# Altium footprint library Connectors.PcbLib: 202 footprints (part 13 of 13)
Each footprint in its own frame and in the unit in brackets; x right, y up, seen from the top. Pads: shape width x height; smd on the part's side, far side on the other; paste and mask are expansions set on the pad; w line width, h text height; cw(c..) or ccw(c..) is an arc to the next point about the centre after c.
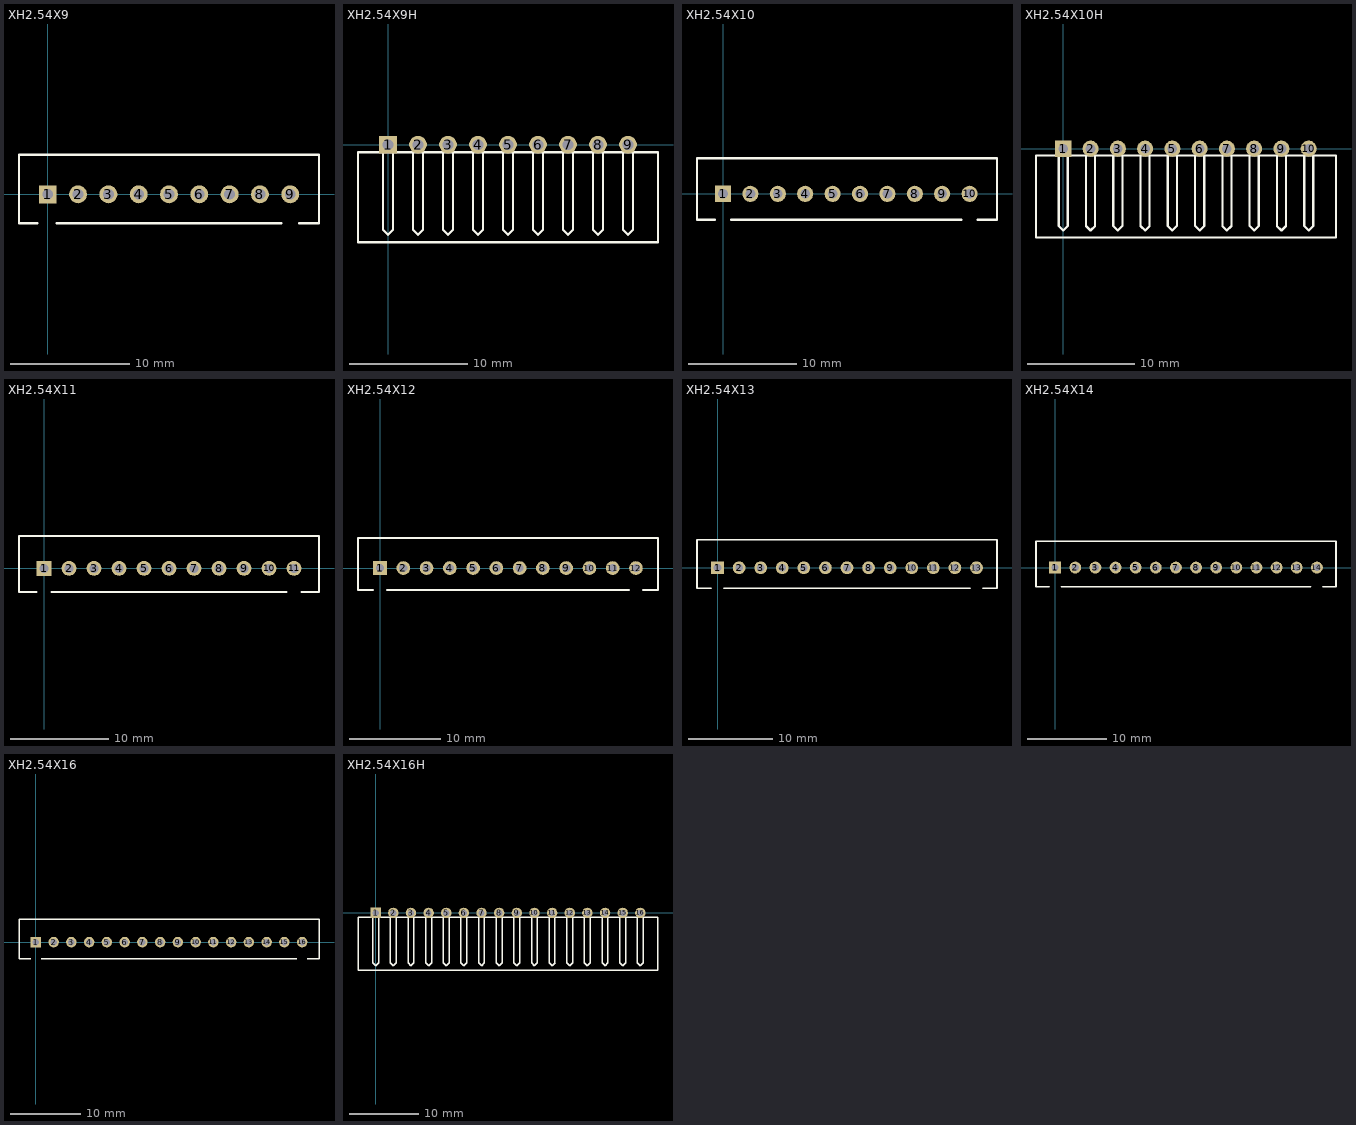
[diagram p12: the footprints below, top view; thin cyan lines are the x and y axes]

## XH2.54X9 [mm] "Connector; Header; 9 Position"
pads (9):
  rect 1.5x1.5 hole 0.9: 1(0,0)
  round 1.5 hole 0.9: 2(2.54,0) 3(5.08,0) 4(7.62,0) 5(10.16,0) 6(12.7,0) 7(15.24,0) 8(17.78,0) 9(20.32,0)
Top Overlay:
  lines w0.2: -0.889,-2.413 -2.413,-2.413 -2.413,3.302 22.733,3.302 22.733,-2.413 21.082,-2.413 ; 0.762,-2.413 19.558,-2.413

## XH2.54X9H [mm] "Connector; Header; 9 Position; Right Angle"
pads (9):
  rect 1.5x1.5 hole 0.9: 1(0,0)
  round 1.5 hole 0.9: 2(2.54,0) 3(5.08,0) 4(7.62,0) 5(10.16,0) 6(12.7,0) 7(15.24,0) 8(17.78,0) 9(20.32,0)
Top Overlay:
  lines w0.2: -0.423,-0.635 -0.423,-7.197 0,-7.62 0.423,-7.197 0.423,-0.635 ; 2.117,-0.635 2.117,-7.197 2.54,-7.62 2.963,-7.197 2.963,-0.635 ; 4.657,-0.635 4.657,-7.197 5.08,-7.62 5.503,-7.197 5.503,-0.635 ; 7.197,-0.635 7.197,-7.197 7.62,-7.62 8.043,-7.197 8.043,-0.635 ; 9.737,-0.635 9.737,-7.197 10.16,-7.62 10.583,-7.197 10.583,-0.635 ; 12.277,-0.635 12.277,-7.197 12.7,-7.62 13.123,-7.197 13.123,-0.635 ; 14.817,-0.635 14.817,-7.197 15.24,-7.62 15.663,-7.197 15.663,-0.635 ; 17.357,-0.635 17.357,-7.197 17.78,-7.62 18.203,-7.197 18.203,-0.635 ; 19.897,-0.635 19.897,-7.197 20.32,-7.62 20.743,-7.197 20.743,-0.635 ; -2.54,-8.255 -2.54,-0.635 22.86,-0.635 22.86,-8.255 -2.54,-8.255

## XH2.54X10 [mm] "Connector; Header; 10 Position"
pads (10):
  rect 1.5x1.5 hole 0.9: 1(0,0)
  round 1.5 hole 0.9: 2(2.54,0) 3(5.08,0) 4(7.62,0) 5(10.16,0) 6(12.7,0) 7(15.24,0) 8(17.78,0) 9(20.32,0) 10(22.86,0)
Top Overlay:
  lines w0.2: -0.762,-2.413 -2.413,-2.413 -2.413,3.302 25.4,3.302 25.4,-2.413 23.622,-2.413 ; 0.762,-2.413 22.098,-2.413

## XH2.54X10H [mm] "Connector; Header; 10 Position; Right Angle"
pads (10):
  rect 1.5x1.5 hole 0.9: 1(0,0)
  round 1.5 hole 0.9: 2(2.54,0) 3(5.08,0) 4(7.62,0) 5(10.16,0) 6(12.7,0) 7(15.24,0) 8(17.78,0) 9(20.32,0) 10(22.86,0)
Top Overlay:
  lines w0.2: -0.423,-0.635 -0.423,-7.197 0,-7.62 0.423,-7.197 0.423,-0.635 ; 2.117,-0.635 2.117,-7.197 2.54,-7.62 2.963,-7.197 2.963,-0.635 ; 4.657,-0.635 4.657,-7.197 5.08,-7.62 5.503,-7.197 5.503,-0.635 ; 7.197,-0.635 7.197,-7.197 7.62,-7.62 8.043,-7.197 8.043,-0.635 ; 9.737,-0.635 9.737,-7.197 10.16,-7.62 10.583,-7.197 10.583,-0.635 ; 12.277,-0.635 12.277,-7.197 12.7,-7.62 13.123,-7.197 13.123,-0.635 ; 14.817,-0.635 14.817,-7.197 15.24,-7.62 15.663,-7.197 15.663,-0.635 ; 17.357,-0.635 17.357,-7.197 17.78,-7.62 18.203,-7.197 18.203,-0.635 ; 19.897,-0.635 19.897,-7.197 20.32,-7.62 20.743,-7.197 20.743,-0.635 ; 22.437,-0.635 22.437,-7.197 22.86,-7.62 23.283,-7.197 23.283,-0.635 ; -2.54,-8.255 25.4,-8.255 25.4,-0.635 -2.54,-0.635 -2.54,-8.255

## XH2.54X11 [mm] "Connector; Header; 11 Position"
pads (11):
  rect 1.5x1.5 hole 0.9: 1(0,0)
  round 1.5 hole 0.9: 2(2.54,0) 3(5.08,0) 4(7.62,0) 5(10.16,0) 6(12.7,0) 7(15.24,0) 8(17.78,0) 9(20.32,0) 10(22.86,0) 11(25.4,0)
Top Overlay:
  lines w0.2: -0.762,-2.413 -2.54,-2.413 -2.54,3.302 27.94,3.302 27.94,-2.413 26.162,-2.413 ; 0.762,-2.413 24.638,-2.413

## XH2.54X12 [mm] "Connector; Header; 12 Position"
pads (12):
  rect 1.5x1.5 hole 0.9: 1(0,0)
  round 1.5 hole 0.9: 2(2.54,0) 3(5.08,0) 4(7.62,0) 5(10.16,0) 6(12.7,0) 7(15.24,0) 8(17.78,0) 9(20.32,0) 10(22.86,0) 11(25.4,0) 12(27.94,0)
Top Overlay:
  lines w0.2: -0.762,-2.413 -2.413,-2.413 -2.413,3.302 30.353,3.302 30.353,-2.413 28.702,-2.413 ; 0.762,-2.413 27.178,-2.413

## XH2.54X13 [mm] "Connector; Header; 13 Position"
pads (13):
  rect 1.5x1.5 hole 0.9: 1(0,0)
  round 1.5 hole 0.9: 2(2.54,0) 3(5.08,0) 4(7.62,0) 5(10.16,0) 6(12.7,0) 7(15.24,0) 8(17.78,0) 9(20.32,0) 10(22.86,0) 11(25.4,0) 12(27.94,0) 13(30.48,0)
Top Overlay:
  lines w0.2: -0.762,-2.413 -2.413,-2.413 -2.413,3.302 32.893,3.302 32.893,-2.413 31.242,-2.413 ; 0.762,-2.413 29.718,-2.413

## XH2.54X14 [mm] "Connector; Header; 14 Position"
pads (14):
  rect 1.5x1.5 hole 0.9: 1(0,0)
  round 1.5 hole 0.9: 2(2.54,0) 3(5.08,0) 4(7.62,0) 5(10.16,0) 6(12.7,0) 7(15.24,0) 8(17.78,0) 9(20.32,0) 10(22.86,0) 11(25.4,0) 12(27.94,0) 13(30.48,0) 14(33.02,0)
Top Overlay:
  lines w0.2: -0.762,-2.413 -2.413,-2.413 -2.413,3.302 35.433,3.302 35.433,-2.413 33.782,-2.413 ; 0.762,-2.413 32.258,-2.413

## XH2.54X16 [mm] "Connector; Header; 16 Position"
pads (16):
  rect 1.5x1.5 hole 0.9: 1(0,0)
  round 1.5 hole 0.9: 2(2.54,0) 3(5.08,0) 4(7.62,0) 5(10.16,0) 6(12.7,0) 7(15.24,0) 8(17.78,0) 9(20.32,0) 10(22.86,0) 11(25.4,0) 12(27.94,0) 13(30.48,0) 14(33.02,0) 15(35.56,0) 16(38.1,0)
Top Overlay:
  lines w0.2: -0.762,-2.413 -2.413,-2.413 -2.413,3.302 40.513,3.302 40.513,-2.413 38.862,-2.413 ; 0.762,-2.413 37.338,-2.413

## XH2.54X16H [mm] "Connector; Header; 16 Position; Right Angle"
pads (16):
  rect 1.5x1.5 hole 0.9: 1(0,0)
  round 1.5 hole 0.9: 2(2.54,0) 3(5.08,0) 4(7.62,0) 5(10.16,0) 6(12.7,0) 7(15.24,0) 8(17.78,0) 9(20.32,0) 10(22.86,0) 11(25.4,0) 12(27.94,0) 13(30.48,0) 14(33.02,0) 15(35.56,0) 16(38.1,0)
Top Overlay:
  lines w0.2: -0.423,-0.635 -0.423,-7.197 0,-7.62 0.423,-7.197 0.423,-0.635 ; 2.117,-0.635 2.117,-7.197 2.54,-7.62 2.963,-7.197 2.963,-0.635 ; 4.657,-0.635 4.657,-7.197 5.08,-7.62 5.503,-7.197 5.503,-0.635 ; 7.197,-0.635 7.197,-7.197 7.62,-7.62 8.043,-7.197 8.043,-0.635 ; 9.737,-0.635 9.737,-7.197 10.16,-7.62 10.583,-7.197 10.583,-0.635 ; 12.277,-0.635 12.277,-7.197 12.7,-7.62 13.123,-7.197 13.123,-0.635 ; 14.817,-0.635 14.817,-7.197 15.24,-7.62 15.663,-7.197 15.663,-0.635 ; 17.357,-0.635 17.357,-7.197 17.78,-7.62 18.203,-7.197 18.203,-0.635 ; 19.897,-0.635 19.897,-7.197 20.32,-7.62 20.743,-7.197 20.743,-0.635 ; 22.437,-0.635 22.437,-7.197 22.86,-7.62 23.283,-7.197 23.283,-0.635 ; 24.977,-0.635 24.977,-7.197 25.4,-7.62 25.823,-7.197 ; 25.781,-7.197 25.781,-0.635 ; 27.517,-0.635 27.517,-7.197 27.94,-7.62 28.363,-7.197 28.363,-0.635 ; 30.057,-0.635 30.057,-7.197 30.48,-7.62 30.903,-7.197 30.903,-0.635 ; 32.597,-0.635 32.597,-7.197 33.02,-7.62 33.443,-7.197 33.443,-0.635 ; 35.137,-0.635 35.137,-7.197 35.56,-7.62 35.983,-7.197 35.983,-0.635 ; 37.677,-0.635 37.677,-7.197 38.1,-7.62 38.523,-7.197 38.523,-0.635 ; -2.54,-8.255 40.64,-8.255 40.64,-0.635 -2.54,-0.635 -2.54,-8.255